# Altium footprint library Data Acquisition - Digital to Analog Converters (DAC).PcbLib: 3 footprints
Each footprint in its own frame and in the unit in brackets; x right, y up, seen from the top. Pads: shape width x height; smd on the part's side, far side on the other; paste and mask are expansions set on the pad; w line width, h text height; cw(c..) or ccw(c..) is an arc to the next point about the centre after c.
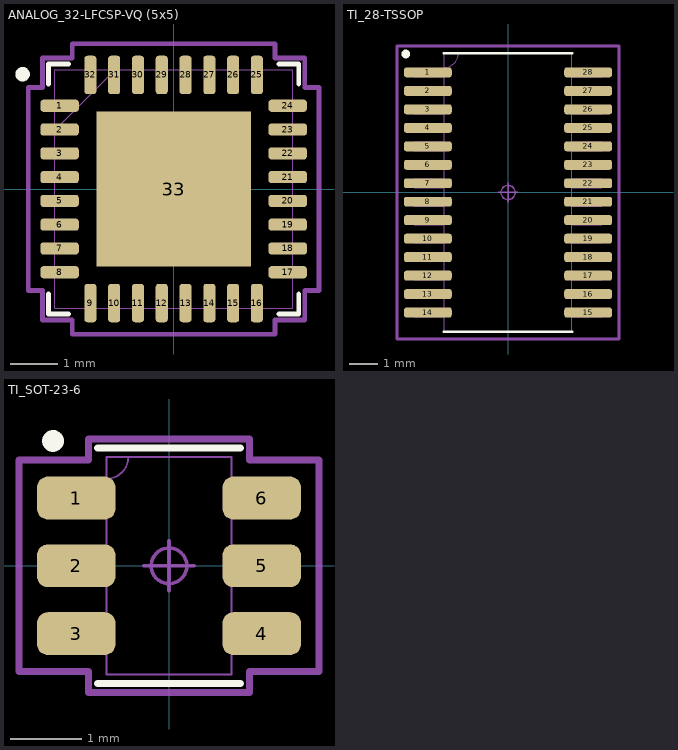
[diagram p0: the footprints below, top view; thin cyan lines are the x and y axes]

## ANALOG_32-LFCSP-VQ (5x5) [mm]
pads (33):
  rrect50% 0.808x0.255 smd paste+0 mask+0.04: 1(-2.398,1.75) 2(-2.398,1.25) 3(-2.398,0.75) 4(-2.398,0.25) 5(-2.398,-0.25) 6(-2.398,-0.75) 7(-2.398,-1.25) 8(-2.398,-1.75) 17(2.398,-1.75) 18(2.398,-1.25) 19(2.398,-0.75) 20(2.398,-0.25) 21(2.398,0.25) 22(2.398,0.75) 23(2.398,1.25) 24(2.398,1.75)
  rrect50% 0.255x0.808 smd paste+0 mask+0.04: 9(-1.75,-2.398) 10(-1.25,-2.398) 11(-0.75,-2.398) 12(-0.25,-2.398) 13(0.25,-2.398) 14(0.75,-2.398) 15(1.25,-2.398) 16(1.75,-2.398) 25(1.75,2.398) 26(1.25,2.398) 27(0.75,2.398) 28(0.25,2.398) 29(-0.25,2.398) 30(-0.75,2.398) 31(-1.25,2.398) 32(-1.75,2.398)
  rect 3.251x3.251 smd paste-1.613 mask+0.04: 33(0,0)
Top Overlay:
  circle w0.152: c-3.175,2.413 r0.076
  lines w0.1: -2.629,-2.21 -2.629,-2.629 -2.21,-2.629 ; -2.629,2.21 -2.629,2.629 -2.21,2.629 ; 2.21,-2.629 2.629,-2.629 2.629,-2.21 ; 2.21,2.629 2.629,2.629 2.629,2.21
Top Paste:
  region: 1.526,-0.1 0.1,-0.1 0.1,-1.526 1.526,-1.526
  region: 1.526,1.526 0.1,1.526 0.1,0.1 1.526,0.1
  region: -0.1,-0.1 -1.526,-0.1 -1.526,-1.526 -0.1,-1.526
  region: -0.1,1.526 -1.526,1.526 -1.526,0.1 -0.1,0.1
Mechanical 13:
  lines w0.025: -2.502,1.232 -1.232,2.502 ; -2.502,-2.502 -2.502,2.502 2.502,2.502 2.502,-2.502 -2.502,-2.502 ; -2.502,-1.902 -2.502,-1.598 -2.502,-1.902 ; -2.502,-1.402 -2.502,-1.098 -2.502,-1.402 ; -2.502,-0.902 -2.502,-0.598 -2.502,-0.902 ; -2.502,-0.402 -2.502,-0.098 -2.502,-0.402 ; -2.502,0.098 -2.502,0.402 -2.502,0.098 ; -2.502,0.598 -2.502,0.902 -2.502,0.598 ; -2.502,1.098 -2.502,1.402 -2.502,1.098 ; -2.502,1.598 -2.502,1.902 -2.502,1.598 ; -1.902,-2.502 -1.598,-2.502 -1.902,-2.502 ; -1.902,2.502 -1.598,2.502 -1.902,2.502 ; -1.402,-2.502 -1.098,-2.502 -1.402,-2.502 ; -1.402,2.502 -1.098,2.502 -1.402,2.502 ; -0.902,-2.502 -0.598,-2.502 -0.902,-2.502 ; -0.902,2.502 -0.598,2.502 -0.902,2.502 ; -0.402,-2.502 -0.098,-2.502 -0.402,-2.502 ; -0.402,2.502 -0.098,2.502 -0.402,2.502 ; 0.098,-2.502 0.402,-2.502 0.098,-2.502 ; 0.098,2.502 0.402,2.502 0.098,2.502 ; 0.598,-2.502 0.902,-2.502 0.598,-2.502 ; 0.598,2.502 0.902,2.502 0.598,2.502 ; 1.098,-2.502 1.402,-2.502 1.098,-2.502 ; 1.098,2.502 1.402,2.502 1.098,2.502 ; 1.598,-2.502 1.902,-2.502 1.598,-2.502 ; 1.598,2.502 1.902,2.502 1.598,2.502 ; 2.502,-1.902 2.502,-1.598 2.502,-1.902 ; 2.502,-1.402 2.502,-1.098 2.502,-1.402 ; 2.502,-0.902 2.502,-0.598 2.502,-0.902 ; 2.502,-0.402 2.502,-0.098 2.502,-0.402 ; 2.502,0.098 2.502,0.402 2.502,0.098 ; 2.502,0.598 2.502,0.902 2.502,0.598 ; 2.502,1.098 2.502,1.402 2.502,1.098 ; 2.502,1.598 2.502,1.902 2.502,1.598
Mechanical 15:
  circle w0.05: c0,0 r0.25
  lines w0.05: -0.35,0 0.35,0 ; 0,-0.35 0,0.35
  lines w0.1: -3.056,-2.131 -3.056,2.131 -2.756,2.131 -2.756,2.756 -2.131,2.756 -2.131,3.056 2.131,3.056 2.131,2.756 2.756,2.756 2.756,2.131 3.056,2.131 3.056,-2.131 2.756,-2.131 2.756,-2.756 2.131,-2.756 2.131,-3.056 -2.131,-3.056 -2.131,-2.756 -2.756,-2.756 -2.756,-2.131 -3.056,-2.131
3D body "CP_32_2_ADI.step": height 0.99, standoff 0, extent -2.502,-2.502 2.502,2.502
3D body: height 0.25, standoff 0, extent 0,0 0.254,0.254

## TI_28-TSSOP [mm]
pads (28):
  rrect50% 1.68x0.35 smd mask+0.04: 1(-2.819,4.225) 2(-2.819,3.575) 3(-2.819,2.925) 4(-2.819,2.275) 5(-2.819,1.625) 6(-2.819,0.975) 7(-2.819,0.325) 8(-2.819,-0.325) 9(-2.819,-0.975) 10(-2.819,-1.625) 11(-2.819,-2.275) 12(-2.819,-2.925) 13(-2.819,-3.575) 14(-2.819,-4.225) 15(2.819,-4.225) 16(2.819,-3.575) 17(2.819,-2.925) 18(2.819,-2.275) 19(2.819,-1.625) 20(2.819,-0.975) 21(2.819,-0.325) 22(2.819,0.325) 23(2.819,0.975) 24(2.819,1.625) 25(2.819,2.275) 26(2.819,2.925) 27(2.819,3.575) 28(2.819,4.225)
Top Overlay:
  circle w0.152: c-3.6,4.875 r0.076
  lines w0.1: -2.248,-4.902 2.248,-4.902 ; -2.248,4.902 2.248,4.902
Mechanical 13:
  lines w0.025: -2.248,4.402 ccw(c-2.248,4.902) -1.748,4.902 ; -3.302,-4.377 -2.248,-4.377 -2.248,-4.073 -3.302,-4.073 -3.302,-4.377 ; -3.302,-3.727 -2.248,-3.727 -2.248,-3.423 -3.302,-3.423 -3.302,-3.727 ; -3.302,-3.077 -2.248,-3.077 -2.248,-2.773 -3.302,-2.773 -3.302,-3.077 ; -3.302,-2.427 -2.248,-2.427 -2.248,-2.123 -3.302,-2.123 -3.302,-2.427 ; -3.302,-1.777 -2.248,-1.777 -2.248,-1.473 -3.302,-1.473 -3.302,-1.777 ; -3.302,-1.127 -2.248,-1.127 -2.248,-0.823 -3.302,-0.823 -3.302,-1.127 ; -3.302,-0.477 -2.248,-0.477 -2.248,-0.173 -3.302,-0.173 -3.302,-0.477 ; -3.302,0.173 -2.248,0.173 -2.248,0.477 -3.302,0.477 -3.302,0.173 ; -3.302,0.823 -2.248,0.823 -2.248,1.127 -3.302,1.127 -3.302,0.823 ; -3.302,1.473 -2.248,1.473 -2.248,1.777 -3.302,1.777 -3.302,1.473 ; -3.302,2.123 -2.248,2.123 -2.248,2.427 -3.302,2.427 -3.302,2.123 ; -3.302,2.773 -2.248,2.773 -2.248,3.077 -3.302,3.077 -3.302,2.773 ; -3.302,3.423 -2.248,3.423 -2.248,3.727 -3.302,3.727 -3.302,3.423 ; -3.302,4.073 -2.248,4.073 -2.248,4.377 -3.302,4.377 -3.302,4.073 ; -2.248,-4.902 -2.248,4.902 2.248,4.902 2.248,-4.902 -2.248,-4.902 ; 2.248,-4.377 3.302,-4.377 3.302,-4.073 2.248,-4.073 2.248,-4.377 ; 2.248,-3.727 3.302,-3.727 3.302,-3.423 2.248,-3.423 2.248,-3.727 ; 2.248,-3.077 3.302,-3.077 3.302,-2.773 2.248,-2.773 2.248,-3.077 ; 2.248,-2.427 3.302,-2.427 3.302,-2.123 2.248,-2.123 2.248,-2.427 ; 2.248,-1.777 3.302,-1.777 3.302,-1.473 2.248,-1.473 2.248,-1.777 ; 2.248,-1.127 3.302,-1.127 3.302,-0.823 2.248,-0.823 2.248,-1.127 ; 2.248,-0.477 3.302,-0.477 3.302,-0.173 2.248,-0.173 2.248,-0.477 ; 2.248,0.173 3.302,0.173 3.302,0.477 2.248,0.477 2.248,0.173 ; 2.248,0.823 3.302,0.823 3.302,1.127 2.248,1.127 2.248,0.823 ; 2.248,1.473 3.302,1.473 3.302,1.777 2.248,1.777 2.248,1.473 ; 2.248,2.123 3.302,2.123 3.302,2.427 2.248,2.427 2.248,2.123 ; 2.248,2.773 3.302,2.773 3.302,3.077 2.248,3.077 2.248,2.773 ; 2.248,3.423 3.302,3.423 3.302,3.727 2.248,3.727 2.248,3.423 ; 2.248,4.073 3.302,4.073 3.302,4.377 2.248,4.377 2.248,4.073
Mechanical 15:
  circle w0.05: c0,0 r0.25
  lines w0.05: -0.35,0 0.35,0 ; 0,-0.35 0,0.35
  lines w0.1: -3.912,-5.156 3.912,-5.156 3.912,5.156 -3.912,5.156 -3.912,-5.156
3D body "PW28.step": height 1.2, standoff 0, extent -3.302,-4.902 3.302,4.902

## TI_SOT-23-6 [mm]
pads (6):
  rrect50% 1.1x0.6 smd paste+0 mask+0.04: 1(-1.3,0.95) 2(-1.3,0) 3(-1.3,-0.95) 4(1.3,-0.95) 5(1.3,0) 6(1.3,0.95)
Top Overlay:
  circle w0.152: c-1.625,1.75 r0.076
  lines w0.1: -1.003,-1.651 1.003,-1.651 ; -1.003,1.651 1.003,1.651
Mechanical 13:
  lines w0.025: -0.876,1.219 ccw(c-0.876,1.524) -0.572,1.524 ; -1.499,-1.204 -0.876,-1.204 -0.876,-0.696 -1.499,-0.696 -1.499,-1.204 ; -1.499,-0.254 -0.876,-0.254 -0.876,0.254 -1.499,0.254 -1.499,-0.254 ; -1.499,0.696 -0.876,0.696 -0.876,1.204 -1.499,1.204 -1.499,0.696 ; -0.876,-1.524 -0.876,1.524 0.876,1.524 0.876,-1.524 -0.876,-1.524 ; 0.876,-1.204 1.499,-1.204 1.499,-0.696 0.876,-0.696 0.876,-1.204 ; 0.876,-0.254 1.499,-0.254 1.499,0.254 0.876,0.254 0.876,-0.254 ; 0.876,0.696 1.499,0.696 1.499,1.204 0.876,1.204 0.876,0.696
Mechanical 15:
  circle w0.05: c0,0 r0.25
  lines w0.05: -0.35,0 0.35,0 ; 0,-0.35 0,0.35
  lines w0.1: -2.103,-1.483 -1.13,-1.483 -1.13,-1.778 1.13,-1.778 1.13,-1.483 2.103,-1.483 2.103,1.483 1.13,1.483 1.13,1.778 -1.13,1.778 -1.13,1.483 -2.103,1.483 -2.103,-1.483
3D body "DBV6.step": height 1.45, standoff 0, extent -1.499,-1.524 1.499,1.524